# EAGLE library part SNSR_MIC_ICS43434 (library !GPLIB_ACTIVE)
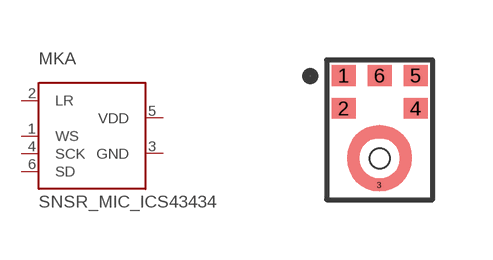
[diagram p19: symbol with the pads of MIC_ICS-43434; footprint MIC_ICS-43434]

Designator prefix MKA

## SNSR_MIC_ICS43434  [MIC_ICS-43434]
1  WS  in
2  LR  in
3  GND  pwr
4  SCK  in
5  VDD  pwr
6  SD  out

## Footprint MIC_ICS-43434 (pad centres in mm)
smd 0.6 x 0.522: 1 -0.9,1.361; 2 -0.9,0.539; 4 0.9,0.539; 5 0.9,1.361; 6 0,1.361
smd 0.1 x 0.1: 3 -0.015,-1.383
hole 0.5 at 0,-0.713